# EAGLE library part MA12-1 (library CON-pinHeader-AON)
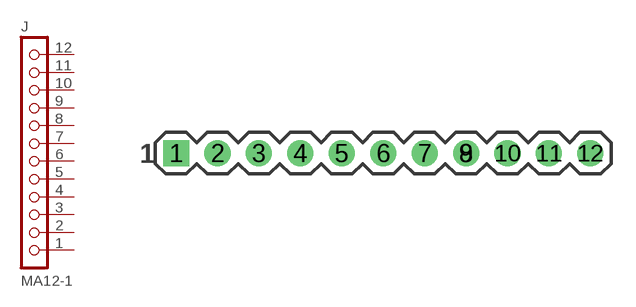
[diagram p7: symbol with the pads of MA12-1; footprint MA12-1]

Designator prefix J

## MA12-1  [MA12-1]
1  1  pas
2  2  pas
3  3  pas
4  4  pas
5  5  pas
6  6  pas
7  7  pas
8  8  pas
9  9  pas
10  10  pas
11  11  pas
12  12  pas

## Footprint MA12-1 (pad centres in mm)
drill 1 pad 1.6 square: 1 -13.97,0
drill 1 pad 1.6: 2 -11.43,0; 3 -8.89,0; 4 -6.35,0; 5 -3.81,0; 6 -1.27,0; 7 1.27,0; 8 3.81,0; 9 3.81,0; 10 6.35,0; 11 8.89,0; 12 11.43,0